# EAGLE library part DC-DC,SW_CAP#1 (library QuantumOptics)
DC-DC Switched Cap, such as Linear Tech LT1983.
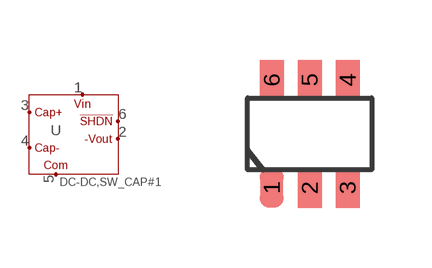
[diagram p222: symbol with the pads of SOT23-6; footprint SOT23-6]

Designator prefix U

## DC-DC,SW_CAP#1-SOT23-6  [SOT23-6]
1  VIN
2  VOUT
3  C+
4  C-
5  COM
6  !SHDN

## Footprint SOT23-6 (pad centres in mm)
SOT-23 6-pin, on wonderful 0.95mm (~0.037") pad-pad spacing.
smd 0.6 x 1: 1 -0.95,-1.35; 2 0,-1.35; 3 0.95,-1.35; 4 0.95,1.35; 5 0,1.35; 6 -0.95,1.35